# EAGLE library part HDR_2X04 (library sj_connectors)
2x04 - 0.1" Pin Header
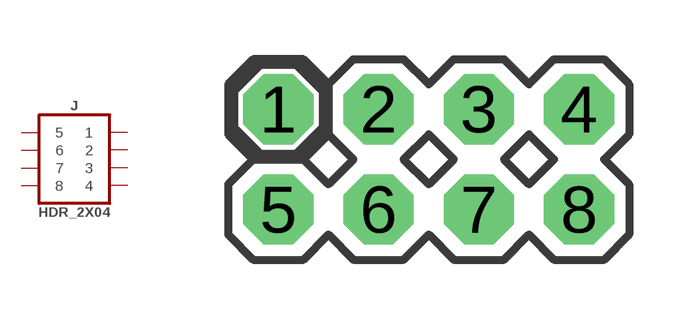
[diagram p6: symbol with the pads of HDR_2X04; footprint HDR_2X04]

Designator prefix J

## HDR_2X04  [HDR_2X04]
1  1  pas
2  2  pas
3  3  pas
4  4  pas
5  5  pas
6  6  pas
7  7  pas
8  8  pas

## Footprint HDR_2X04 (pad centres in mm)
2x04 - 0.1" Pin Header Package
drill 0.838 pad 1.778 octagon: 1 0,0; 2 2.54,0; 3 5.08,0; 4 7.62,0; 5 0,-2.54; 6 2.54,-2.54; 7 5.08,-2.54; 8 7.62,-2.54